# Altium footprint library footprints.PcbLib: 6 footprints
Each footprint in its own frame and in the unit in brackets; x right, y up, seen from the top. Pads: shape width x height; smd on the part's side, far side on the other; paste and mask are expansions set on the pad; w line width, h text height; cw(c..) or ccw(c..) is an arc to the next point about the centre after c.
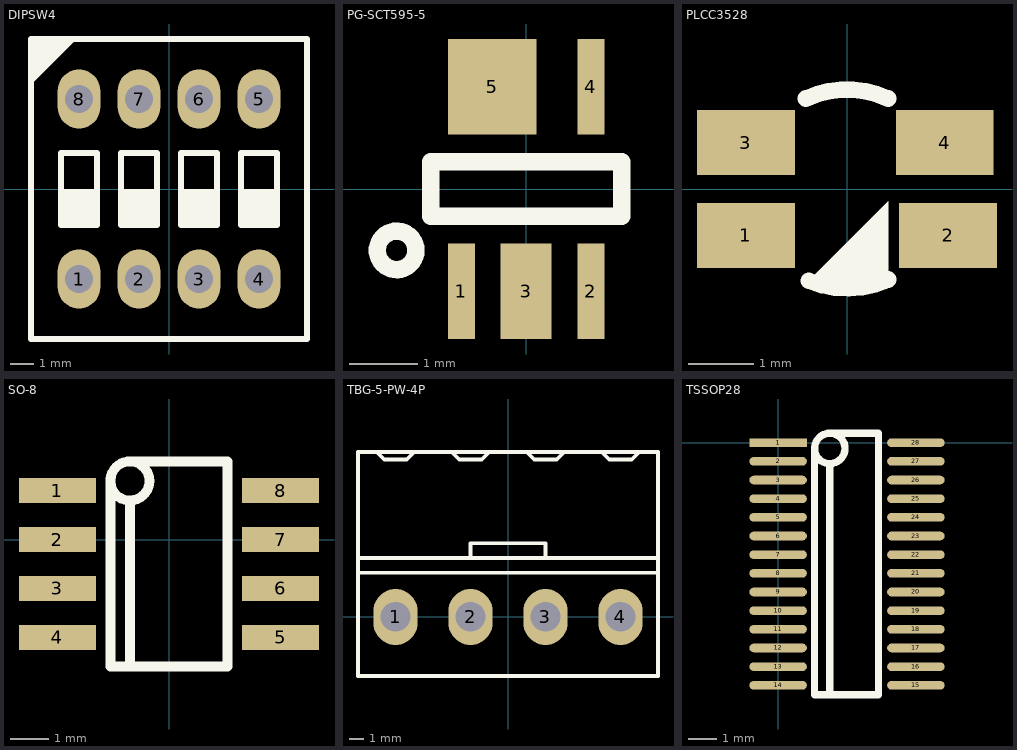
[diagram p0: the footprints below, top view; thin cyan lines are the x and y axes]

## DIPSW4 [mm] "DIP switch 4 pole"
pads (8):
  oval 1.8x2.5 hole 1.2 unplated: 1(-3.81,-3.81) 2(-1.27,-3.81) 3(1.27,-3.81) 4(3.81,-3.81) 5(3.81,3.81) 6(1.27,3.81) 7(-1.27,3.81) 8(-3.81,3.81)
Top Overlay:
  rectangle: -4.572,-1.524 -3.048,0
  rectangle: -2.032,-1.524 -0.508,0
  rectangle: 0.508,-1.524 2.032,0
  rectangle: 3.048,-1.524 4.572,0
  region: -4.064,6.35 -5.842,6.35 -5.842,4.572
  lines w0.254: -5.842,4.572 -4.064,6.35 ; -5.842,-6.35 -5.842,6.35 5.842,6.35 5.842,-6.35 -5.842,-6.35 ; -4.572,-1.524 -4.572,1.524 -3.048,1.524 -3.048,-1.524 -4.572,-1.524 ; -2.032,-1.524 -0.508,-1.524 -0.508,1.524 -2.032,1.524 -2.032,-1.524 ; 0.508,-1.524 2.032,-1.524 2.032,1.524 0.508,1.524 0.508,-1.524 ; 3.048,-1.524 4.572,-1.524 4.572,1.524 3.048,1.524 3.048,-1.524

## PG-SCT595-5 [mm]
pads (5):
  rect 0.4x1.4 smd: 1(-0.95,-1.5) 2(0.95,-1.5) 4(0.95,1.5)
  rect 0.75x1.4 smd: 3(0,-1.5)
  rect 1.3x1.4 smd: 5(-0.5,1.5)
Top Overlay:
  circle w0.254: c-1.9,-0.9 r0.283
  lines w0.254: -1.4,-0.4 -1.4,0.4 1.4,0.4 1.4,-0.4 -1.4,-0.4

## PLCC3528 [mm]
pads (4):
  rect 1.5x1 smd: 1(-1.55,-0.713) 2(1.55,-0.713) 3(-1.55,0.713) 4(1.5,0.713)
Top Overlay:
  region: -0.586,-1.407 0.635,-0.186 0.635,-1.383 0.631,-1.387 0,-1.524
  lines w0.254: -0.631,1.387 cw(c0,0) 0.631,1.387 ; -0.586,-1.407 ccw(c0,0) 0.631,-1.387

## SO-8 [mm]
pads (8):
  rect 2x0.65 smd: 1(-2.9,1.27) 2(-2.9,0) 3(-2.9,-1.27) 4(-2.9,-2.54) 5(2.9,-2.54) 6(2.9,-1.27) 7(2.9,0) 8(2.9,1.27)
Top Overlay:
  circle w0.254: c-1.016,1.524 r0.508
  lines w0.254: -1.524,1.524 -1.524,-3.302 1.524,-3.302 1.524,2.032 -1.016,2.032 ; -1.016,-3.302 -1.016,1.016

## TBG-5-PW-4P [mm] "Pluggable terminal block socket"
pads (4):
  oval 3x3.8 hole 2 unplated: 1(-7.62,0) 2(-2.54,0) 3(2.54,0) 4(7.62,0)
Top Overlay:
  lines w0.254: -10.16,3 10.16,3 ; -8.89,11.176 -8.382,10.668 -6.858,10.668 -6.35,11.176 ; -3.81,11.176 -3.302,10.668 -1.778,10.668 -1.27,11.176 ; -2.54,4 -2.54,5 2.54,5 2.54,4 ; 1.27,11.176 1.778,10.668 3.302,10.668 3.81,11.176 ; 6.35,11.176 6.858,10.668 8.382,10.668 8.89,11.176 ; -10.16,4 -10.16,11.176 10.16,11.176 10.16,4 ; -10.16,4 10.16,4 ; -10.16,4 -10.16,-4 10.16,-4 10.16,4

## TSSOP28 [mm]
pads (28):
  rect 2x0.3 smd: 1(0,0)
  oval 2x0.3 smd: 2(0,-0.65) 3(0,-1.3) 4(0,-1.95) 5(0,-2.6) 6(0,-3.25) 7(0,-3.9) 8(0,-4.55) 9(0,-5.2) 10(0,-5.85) 11(0,-6.5) 12(0,-7.15) 13(0,-7.8) 14(0,-8.45) 15(4.8,-8.45) 16(4.8,-7.8) 17(4.8,-7.15) 18(4.8,-6.5) 19(4.8,-5.85) 20(4.8,-5.2) 21(4.8,-4.55) 22(4.8,-3.9) 23(4.8,-3.25) 24(4.8,-2.6) 25(4.8,-1.95) 26(4.8,-1.3) 27(4.8,-0.65) 28(4.8,0)
Top Overlay:
  circle w0.254: c1.8,-0.2 r0.53
  lines w0.254: 1.27,-8.775 1.27,-0.2 ; 1.3,-8.775 3.5,-8.775 3.5,0.325 1.8,0.325 ; 1.8,-8.775 1.8,-0.8